# EAGLE library part TPA2005D1 (library Deegou_IC)
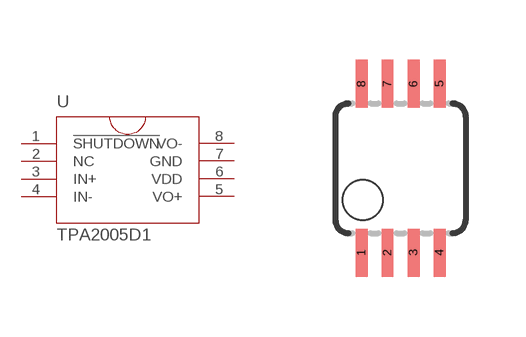
[diagram p102: symbol with the pads of MSOP08; footprint MSOP08]

Designator prefix U

## TPA2005D1  [MSOP08]
1  !SHUTDOWN
2  NC
3  IN+
4  IN-
5  VO+
6  VDD
7  GND
8  VO-

## Footprint MSOP08 (pad centres in mm)
Mini Small Outline Package
smd 0.3 x 1.2: 1 -0.976,-2.113; 2 -0.326,-2.113; 3 0.324,-2.113; 4 0.974,-2.113; 5 0.974,2.112; 6 0.324,2.112; 7 -0.326,2.112; 8 -0.976,2.112